# Altium footprint library HUBER+SUHNER_85_SMA-50-0-144_111_YH.PcbLib: 1 footprints
Each footprint in its own frame and in the unit in brackets; x right, y up, seen from the top. Pads: shape width x height; smd on the part's side, far side on the other; paste and mask are expansions set on the pad; w line width, h text height; cw(c..) or ccw(c..) is an arc to the next point about the centre after c.
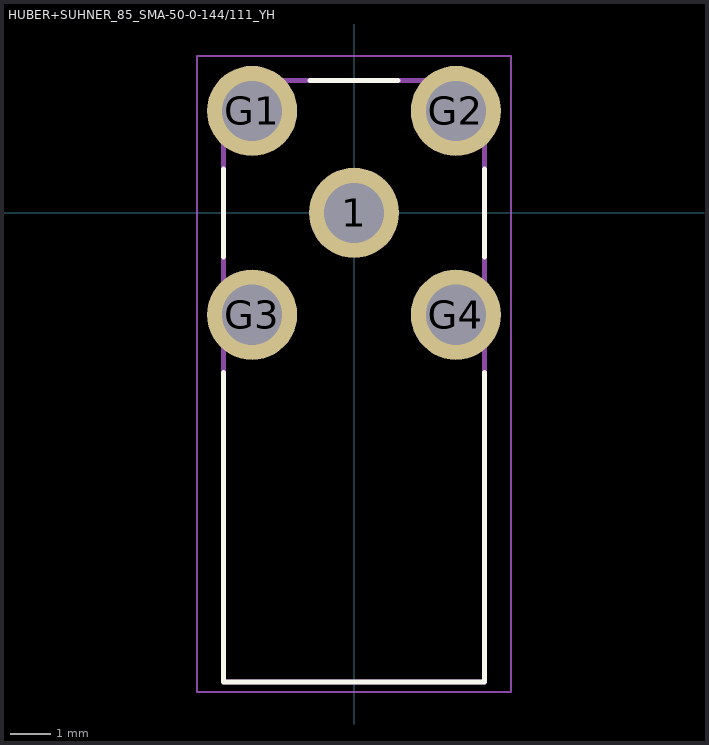
[diagram p0: the footprint, top view; thin cyan lines are the x and y axes]

## HUBER+SUHNER_85_SMA-50-0-144/111_YH [mm]
height 9.7
pads (5):
  round 2.25 hole 1.5: 1(0,0) G1(-2.54,2.54) G2(2.54,2.54) G3(-2.54,-2.54) G4(2.54,-2.54)
Top Overlay:
  lines w0.127: -3.25,-3.985 -3.25,-11.7 3.25,-11.7 3.25,-3.985 ; -3.25,-1.095 -3.25,1.095 ; -1.095,3.3 1.095,3.3 ; 3.25,-1.095 3.25,1.095
Assembly Top:
  lines w0.127: -3.25,-11.7 3.25,-11.7 3.25,3.3 -3.25,3.3 -3.25,-11.7
Courtyard Top:
  lines w0.05: -3.915,-11.95 3.915,-11.95 3.915,3.915 -3.915,3.915 -3.915,-11.95
3D body "step_temp.STEP": height 9.9, standoff -3.8, extent -3.225,-11.77 3.225,3.23